# Altium schematic symbol library kmilo17pet-NSC_Interface.SchLib: 1433 symbols (part 13 of 51)
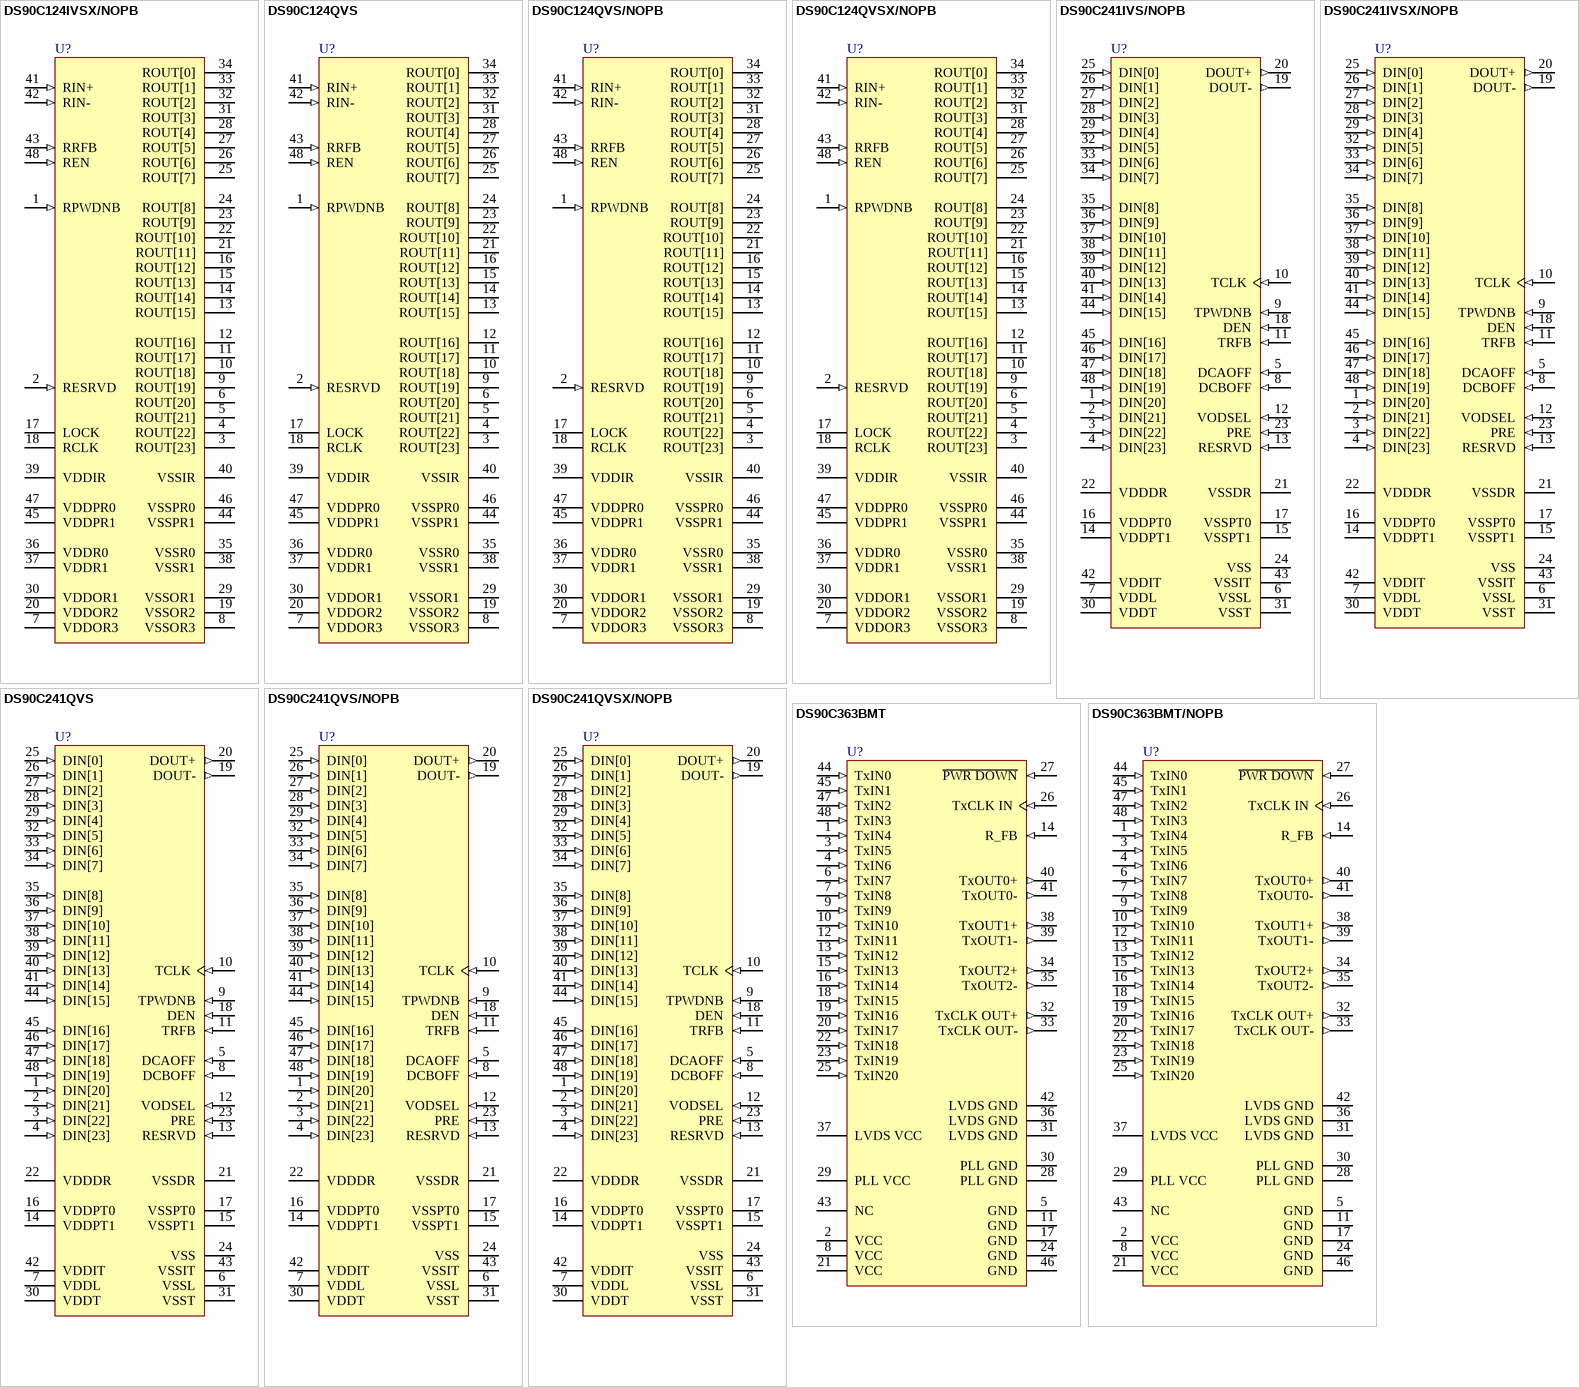
[diagram p136: symbols DS90C124IVSX/NOPB to DS90C363BMT/NOPB]

## DS90C363BMT
designator U?
+3.3V Programmable LVDS Transmitter 18-Bit Flat Panel Display (FPD) Link - 65MHz, 48-pin TSSOP; PartNumber: DS90C363BMT; Manufacturer: National Semiconductor; PackageTopMarking: NSUZXYTTE#*DS90C363BMT; PowerWise: N; CompType: Interface IC; High-Reliability: Y; DatasheetVersion: Oct-2006; PackageVersion: revE, Apr-2003; PackageReference: MTD48; PackageDescription: Molded TSSOP, Jedec, 12.5 x 6.1 x 0.9mm Body, 48 Lead, 0.50mm Pitch; RoHS: N; PinCount: 48; Code_JEDEC: MO-153-ED; ComponentLink1Description: Manufacturer URL; ComponentLink1URL: http://www.national.com/; ComponentLink2Description: DS90C363B Datasheet; ComponentLink2URL: http://www.national.com/ds/DS/DS90C363B.pdf; ComponentLink3Description: DS90C363B Web Page; ComponentLink3URL: http://www.national.com/pf/DS/DS90C363B.html; ComponentLink4Description: MTD48 Package Page; ComponentLink4URL: http://www.national.com/packaging/folders/mtd48.html
footprint MTD48_N (TSSOP, 48-Leads, Body 12.5x6.1mm, Pitch 0.5mm, IPC Medium Density)
footprint MTD48_L (TSSOP, 48-Leads, Body 12.5x6.1mm, Pitch 0.5mm, IPC High Density)
footprint MTD48_M (TSSOP, 48-Leads, Body 12.5x6.1mm, Pitch 0.5mm, IPC Low Density)
pins: 1 TxIN4 (in), 2 VCC (power), 3 TxIN5 (in), 4 TxIN6 (in), 5 GND (power), 6 TxIN7 (in), 7 TxIN8 (in), 8 VCC (power), 9 TxIN9 (in), 10 TxIN10 (in), 11 GND (power), 12 TxIN11 (in), 13 TxIN12 (in), 14 R_FB (in), 15 TxIN13 (in), 16 TxIN14 (in), 17 GND (power), 18 TxIN15 (in), 19 TxIN16 (in), 20 TxIN17 (in), 21 VCC (power), 22 TxIN18 (in), 23 TxIN19 (in), 24 GND (power), 25 TxIN20 (in), 26 TxCLK IN (in), 27 ~{PWR DOWN} (in), 28 PLL GND (power), 29 PLL VCC (power), 30 PLL GND (power), 31 LVDS GND (power), 32 TxCLK OUT+ (out), 33 TxCLK OUT- (out), 34 TxOUT2+ (out), 35 TxOUT2- (out), 36 LVDS GND (power), 37 LVDS VCC (power), 38 TxOUT1+ (out), 39 TxOUT1- (out), 40 TxOUT0+ (out), 41 TxOUT0- (out), 42 LVDS GND (power), 43 NC, 44 TxIN0 (in), 45 TxIN1 (in), 46 GND (power), 47 TxIN2 (in), 48 TxIN3 (in)

## DS90C363BMT/NOPB
designator U?
+3.3V Programmable LVDS Transmitter 18-Bit Flat Panel Display (FPD) Link - 65MHz, 48-pin TSSOP, Pb-Free; PartNumber: DS90C363BMT/NOPB; Manufacturer: National Semiconductor; PackageTopMarking: NSUZXYTTE#*DS90C363BMT; PowerWise: N; CompType: Interface IC; High-Reliability: Y; DatasheetVersion: Oct-2006; PackageVersion: revE, Apr-2003; PackageReference: MTD48; PackageDescription: Molded TSSOP, Jedec, 12.5 x 6.1 x 0.9mm Body, 48 Lead, 0.50mm Pitch; RoHS: Y; PinCount: 48; Code_JEDEC: MO-153-ED; ComponentLink1Description: Manufacturer URL; ComponentLink1URL: http://www.national.com/; ComponentLink2Description: DS90C363B Datasheet; ComponentLink2URL: http://www.national.com/ds/DS/DS90C363B.pdf; ComponentLink3Description: DS90C363B Web Page; ComponentLink3URL: http://www.national.com/pf/DS/DS90C363B.html; ComponentLink4Description: MTD48 Package Page; ComponentLink4URL: http://www.national.com/packaging/folders/mtd48.html
footprint MTD48_N (TSSOP, 48-Leads, Body 12.5x6.1mm, Pitch 0.5mm, IPC Medium Density)
footprint MTD48_L (TSSOP, 48-Leads, Body 12.5x6.1mm, Pitch 0.5mm, IPC High Density)
footprint MTD48_M (TSSOP, 48-Leads, Body 12.5x6.1mm, Pitch 0.5mm, IPC Low Density)
pins: 1 TxIN4 (in), 2 VCC (power), 3 TxIN5 (in), 4 TxIN6 (in), 5 GND (power), 6 TxIN7 (in), 7 TxIN8 (in), 8 VCC (power), 9 TxIN9 (in), 10 TxIN10 (in), 11 GND (power), 12 TxIN11 (in), 13 TxIN12 (in), 14 R_FB (in), 15 TxIN13 (in), 16 TxIN14 (in), 17 GND (power), 18 TxIN15 (in), 19 TxIN16 (in), 20 TxIN17 (in), 21 VCC (power), 22 TxIN18 (in), 23 TxIN19 (in), 24 GND (power), 25 TxIN20 (in), 26 TxCLK IN (in), 27 ~{PWR DOWN} (in), 28 PLL GND (power), 29 PLL VCC (power), 30 PLL GND (power), 31 LVDS GND (power), 32 TxCLK OUT+ (out), 33 TxCLK OUT- (out), 34 TxOUT2+ (out), 35 TxOUT2- (out), 36 LVDS GND (power), 37 LVDS VCC (power), 38 TxOUT1+ (out), 39 TxOUT1- (out), 40 TxOUT0+ (out), 41 TxOUT0- (out), 42 LVDS GND (power), 43 NC, 44 TxIN0 (in), 45 TxIN1 (in), 46 GND (power), 47 TxIN2 (in), 48 TxIN3 (in)

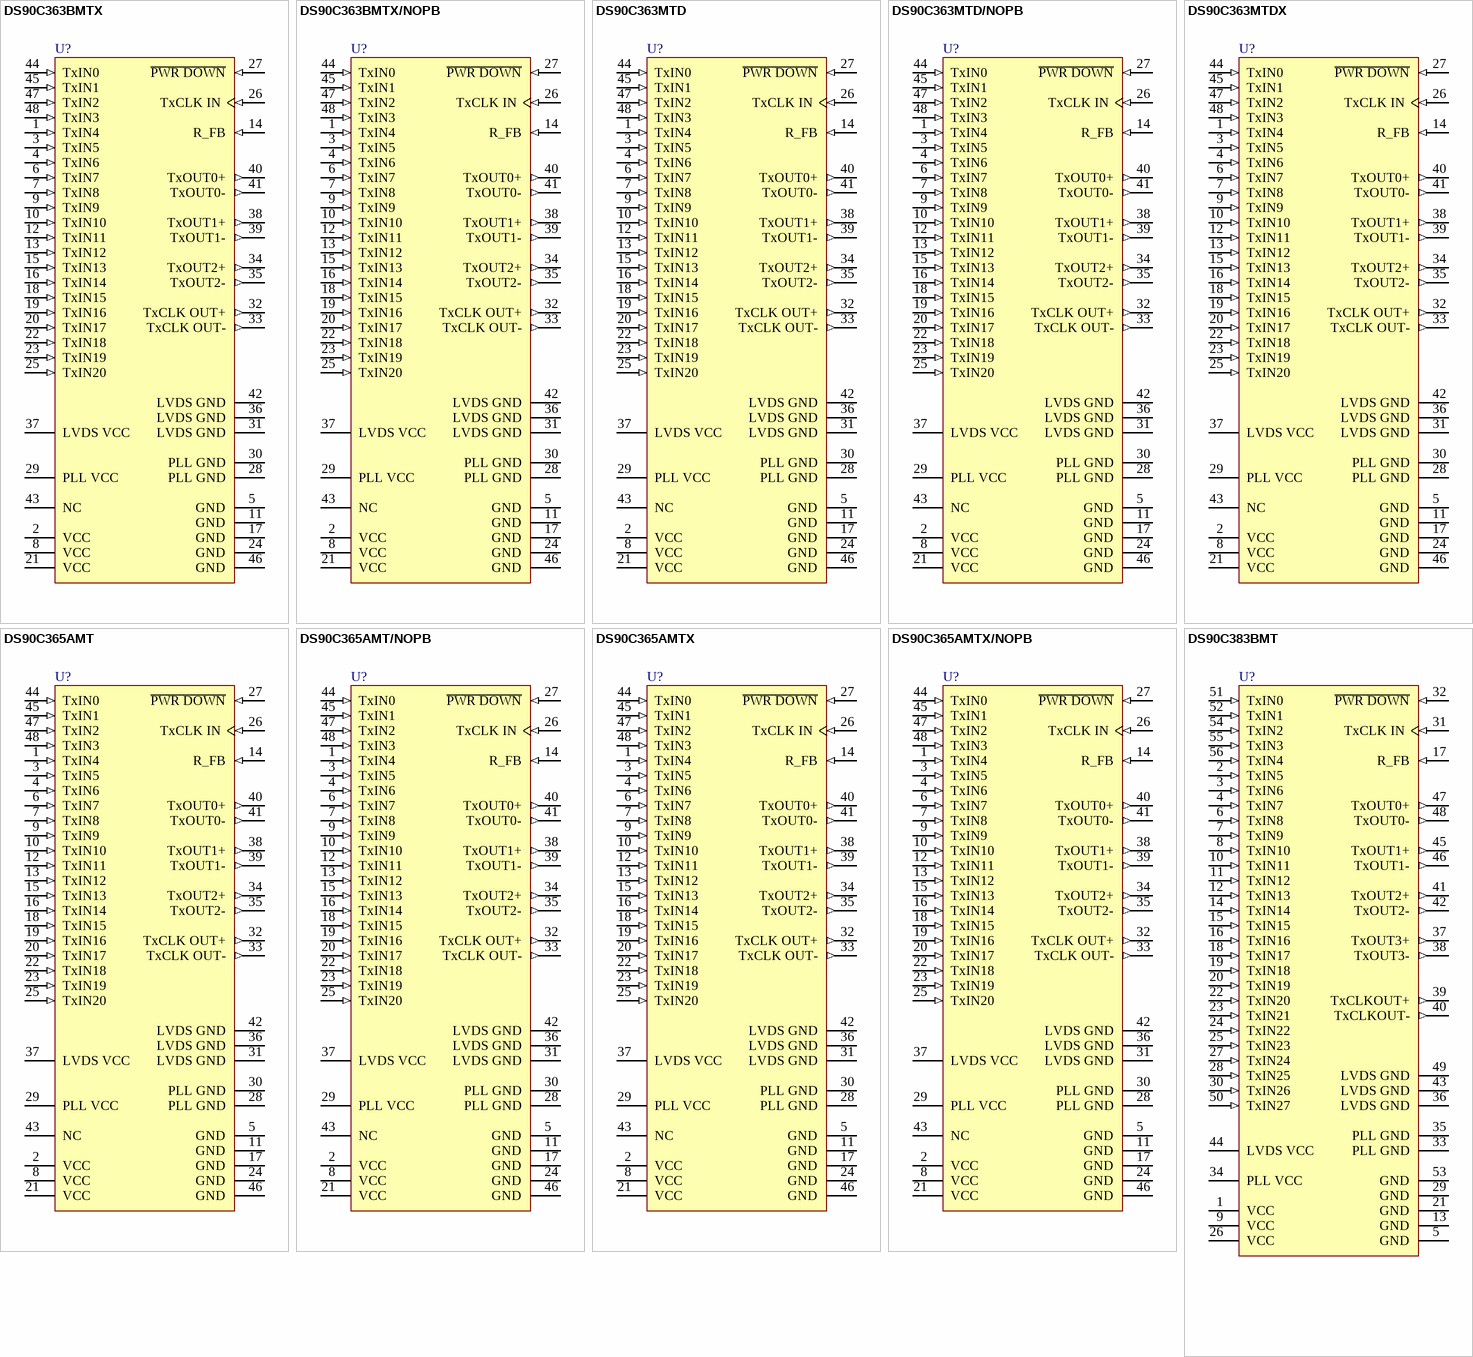
[diagram p31: symbols DS90C363BMTX to DS90C383BMT]

## DS90C363BMTX
designator U?
+3.3V Programmable LVDS Transmitter 18-Bit Flat Panel Display (FPD) Link - 65MHz, 48-pin TSSOP; PartNumber: DS90C363BMTX; Manufacturer: National Semiconductor; PackageTopMarking: NSUZXYTTE#*DS90C363BMT; PowerWise: N; CompType: Interface IC; High-Reliability: Y; DatasheetVersion: Oct-2006; PackageVersion: revE, Apr-2003; PackageReference: MTD48; PackageDescription: Molded TSSOP, Jedec, 12.5 x 6.1 x 0.9mm Body, 48 Lead, 0.50mm Pitch; RoHS: N; PinCount: 48; Code_JEDEC: MO-153-ED; ComponentLink1Description: Manufacturer URL; ComponentLink1URL: http://www.national.com/; ComponentLink2Description: DS90C363B Datasheet; ComponentLink2URL: http://www.national.com/ds/DS/DS90C363B.pdf; ComponentLink3Description: DS90C363B Web Page; ComponentLink3URL: http://www.national.com/pf/DS/DS90C363B.html; ComponentLink4Description: MTD48 Package Page; ComponentLink4URL: http://www.national.com/packaging/folders/mtd48.html
footprint MTD48_N (TSSOP, 48-Leads, Body 12.5x6.1mm, Pitch 0.5mm, IPC Medium Density)
footprint MTD48_L (TSSOP, 48-Leads, Body 12.5x6.1mm, Pitch 0.5mm, IPC High Density)
footprint MTD48_M (TSSOP, 48-Leads, Body 12.5x6.1mm, Pitch 0.5mm, IPC Low Density)
pins: 1 TxIN4 (in), 2 VCC (power), 3 TxIN5 (in), 4 TxIN6 (in), 5 GND (power), 6 TxIN7 (in), 7 TxIN8 (in), 8 VCC (power), 9 TxIN9 (in), 10 TxIN10 (in), 11 GND (power), 12 TxIN11 (in), 13 TxIN12 (in), 14 R_FB (in), 15 TxIN13 (in), 16 TxIN14 (in), 17 GND (power), 18 TxIN15 (in), 19 TxIN16 (in), 20 TxIN17 (in), 21 VCC (power), 22 TxIN18 (in), 23 TxIN19 (in), 24 GND (power), 25 TxIN20 (in), 26 TxCLK IN (in), 27 ~{PWR DOWN} (in), 28 PLL GND (power), 29 PLL VCC (power), 30 PLL GND (power), 31 LVDS GND (power), 32 TxCLK OUT+ (out), 33 TxCLK OUT- (out), 34 TxOUT2+ (out), 35 TxOUT2- (out), 36 LVDS GND (power), 37 LVDS VCC (power), 38 TxOUT1+ (out), 39 TxOUT1- (out), 40 TxOUT0+ (out), 41 TxOUT0- (out), 42 LVDS GND (power), 43 NC, 44 TxIN0 (in), 45 TxIN1 (in), 46 GND (power), 47 TxIN2 (in), 48 TxIN3 (in)

## DS90C363BMTX/NOPB
designator U?
+3.3V Programmable LVDS Transmitter 18-Bit Flat Panel Display (FPD) Link - 65MHz, 48-pin TSSOP, Pb-Free; PartNumber: DS90C363BMTX/NOPB; Manufacturer: National Semiconductor; PackageTopMarking: NSUZXYTTE#*DS90C363BMT; PowerWise: N; CompType: Interface IC; High-Reliability: Y; DatasheetVersion: Oct-2006; PackageVersion: revE, Apr-2003; PackageReference: MTD48; PackageDescription: Molded TSSOP, Jedec, 12.5 x 6.1 x 0.9mm Body, 48 Lead, 0.50mm Pitch; RoHS: Y; PinCount: 48; Code_JEDEC: MO-153-ED; ComponentLink1Description: Manufacturer URL; ComponentLink1URL: http://www.national.com/; ComponentLink2Description: DS90C363B Datasheet; ComponentLink2URL: http://www.national.com/ds/DS/DS90C363B.pdf; ComponentLink3Description: DS90C363B Web Page; ComponentLink3URL: http://www.national.com/pf/DS/DS90C363B.html; ComponentLink4Description: MTD48 Package Page; ComponentLink4URL: http://www.national.com/packaging/folders/mtd48.html
footprint MTD48_N (TSSOP, 48-Leads, Body 12.5x6.1mm, Pitch 0.5mm, IPC Medium Density)
footprint MTD48_L (TSSOP, 48-Leads, Body 12.5x6.1mm, Pitch 0.5mm, IPC High Density)
footprint MTD48_M (TSSOP, 48-Leads, Body 12.5x6.1mm, Pitch 0.5mm, IPC Low Density)
pins: 1 TxIN4 (in), 2 VCC (power), 3 TxIN5 (in), 4 TxIN6 (in), 5 GND (power), 6 TxIN7 (in), 7 TxIN8 (in), 8 VCC (power), 9 TxIN9 (in), 10 TxIN10 (in), 11 GND (power), 12 TxIN11 (in), 13 TxIN12 (in), 14 R_FB (in), 15 TxIN13 (in), 16 TxIN14 (in), 17 GND (power), 18 TxIN15 (in), 19 TxIN16 (in), 20 TxIN17 (in), 21 VCC (power), 22 TxIN18 (in), 23 TxIN19 (in), 24 GND (power), 25 TxIN20 (in), 26 TxCLK IN (in), 27 ~{PWR DOWN} (in), 28 PLL GND (power), 29 PLL VCC (power), 30 PLL GND (power), 31 LVDS GND (power), 32 TxCLK OUT+ (out), 33 TxCLK OUT- (out), 34 TxOUT2+ (out), 35 TxOUT2- (out), 36 LVDS GND (power), 37 LVDS VCC (power), 38 TxOUT1+ (out), 39 TxOUT1- (out), 40 TxOUT0+ (out), 41 TxOUT0- (out), 42 LVDS GND (power), 43 NC, 44 TxIN0 (in), 45 TxIN1 (in), 46 GND (power), 47 TxIN2 (in), 48 TxIN3 (in)

## DS90C363MTD
designator U?
+3.3V Programmable LVDS Transmitter 18-Bit Flat Panel Display (FPD) Link-65 MHz, 48 pin TSSOP; PartNumber: DS90C363MTD; Manufacturer: National Semiconductor; PackageTopMarking: NS2ZXYTTE#*DS90C363MTD*BBBBB; PowerWise: N; CompType: Interface IC; High-Reliability: Y; DatasheetVersion: Sep-1999; PackageVersion: revE, Apr-2003; PackageReference: MTD48; PackageDescription: Molded TSSOP, Jedec, 12.5 x 6.1 x 0.9mm Body, 48 Lead, 0.50mm Pitch; RoHS: N; PinCount: 48; Code_JEDEC: MO-153-ED; ComponentLink1Description: Manufacturer URL; ComponentLink1URL: http://www.national.com/; ComponentLink2Description: DS90C363 Datasheet; ComponentLink2URL: http://www.national.com/ds/DS/DS90C363.pdf; ComponentLink3Description: DS90C363 Web Page; ComponentLink3URL: http://www.national.com/pf/DS/DS90C363.html; ComponentLink4Description: MTD48 Package Page; ComponentLink4URL: http://www.national.com/packaging/folders/mtd48.html
footprint MTD48_N (TSSOP, 48-Leads, Body 12.5x6.1mm, Pitch 0.5mm, IPC Medium Density)
footprint MTD48_L (TSSOP, 48-Leads, Body 12.5x6.1mm, Pitch 0.5mm, IPC High Density)
footprint MTD48_M (TSSOP, 48-Leads, Body 12.5x6.1mm, Pitch 0.5mm, IPC Low Density)
pins: 1 TxIN4 (in), 2 VCC (power), 3 TxIN5 (in), 4 TxIN6 (in), 5 GND (power), 6 TxIN7 (in), 7 TxIN8 (in), 8 VCC (power), 9 TxIN9 (in), 10 TxIN10 (in), 11 GND (power), 12 TxIN11 (in), 13 TxIN12 (in), 14 R_FB (in), 15 TxIN13 (in), 16 TxIN14 (in), 17 GND (power), 18 TxIN15 (in), 19 TxIN16 (in), 20 TxIN17 (in), 21 VCC (power), 22 TxIN18 (in), 23 TxIN19 (in), 24 GND (power), 25 TxIN20 (in), 26 TxCLK IN (in), 27 ~{PWR DOWN} (in), 28 PLL GND (power), 29 PLL VCC (power), 30 PLL GND (power), 31 LVDS GND (power), 32 TxCLK OUT+ (out), 33 TxCLK OUT- (out), 34 TxOUT2+ (out), 35 TxOUT2- (out), 36 LVDS GND (power), 37 LVDS VCC (power), 38 TxOUT1+ (out), 39 TxOUT1- (out), 40 TxOUT0+ (out), 41 TxOUT0- (out), 42 LVDS GND (power), 43 NC, 44 TxIN0 (in), 45 TxIN1 (in), 46 GND (power), 47 TxIN2 (in), 48 TxIN3 (in)

## DS90C363MTD/NOPB
designator U?
+3.3V Programmable LVDS Transmitter 18-Bit Flat Panel Display (FPD) Link-65 MHz, 48 pin TSSOP; PartNumber: DS90C363MTD/NOPB; Manufacturer: National Semiconductor; PackageTopMarking: NS2ZXYTTE#*DS90C363MTD*BBBBB; PowerWise: N; CompType: Interface IC; High-Reliability: Y; DatasheetVersion: Sep-1999; PackageVersion: revE, Apr-2003; PackageReference: MTD48; PackageDescription: Molded TSSOP, Jedec, 12.5 x 6.1 x 0.9mm Body, 48 Lead, 0.50mm Pitch; RoHS: Y; PinCount: 48; Code_JEDEC: MO-153-ED; ComponentLink1Description: Manufacturer URL; ComponentLink1URL: http://www.national.com/; ComponentLink2Description: DS90C363 Datasheet; ComponentLink2URL: http://www.national.com/ds/DS/DS90C363.pdf; ComponentLink3Description: DS90C363 Web Page; ComponentLink3URL: http://www.national.com/pf/DS/DS90C363.html; ComponentLink4Description: MTD48 Package Page; ComponentLink4URL: http://www.national.com/packaging/folders/mtd48.html
footprint MTD48_N (TSSOP, 48-Leads, Body 12.5x6.1mm, Pitch 0.5mm, IPC Medium Density)
footprint MTD48_L (TSSOP, 48-Leads, Body 12.5x6.1mm, Pitch 0.5mm, IPC High Density)
footprint MTD48_M (TSSOP, 48-Leads, Body 12.5x6.1mm, Pitch 0.5mm, IPC Low Density)
pins: 1 TxIN4 (in), 2 VCC (power), 3 TxIN5 (in), 4 TxIN6 (in), 5 GND (power), 6 TxIN7 (in), 7 TxIN8 (in), 8 VCC (power), 9 TxIN9 (in), 10 TxIN10 (in), 11 GND (power), 12 TxIN11 (in), 13 TxIN12 (in), 14 R_FB (in), 15 TxIN13 (in), 16 TxIN14 (in), 17 GND (power), 18 TxIN15 (in), 19 TxIN16 (in), 20 TxIN17 (in), 21 VCC (power), 22 TxIN18 (in), 23 TxIN19 (in), 24 GND (power), 25 TxIN20 (in), 26 TxCLK IN (in), 27 ~{PWR DOWN} (in), 28 PLL GND (power), 29 PLL VCC (power), 30 PLL GND (power), 31 LVDS GND (power), 32 TxCLK OUT+ (out), 33 TxCLK OUT- (out), 34 TxOUT2+ (out), 35 TxOUT2- (out), 36 LVDS GND (power), 37 LVDS VCC (power), 38 TxOUT1+ (out), 39 TxOUT1- (out), 40 TxOUT0+ (out), 41 TxOUT0- (out), 42 LVDS GND (power), 43 NC, 44 TxIN0 (in), 45 TxIN1 (in), 46 GND (power), 47 TxIN2 (in), 48 TxIN3 (in)

## DS90C363MTDX
designator U?
+3.3V Programmable LVDS Transmitter 18-Bit Flat Panel Display (FPD) Link-65 MHz, 48 pin TSSOP; PartNumber: DS90C363MTDX; Manufacturer: National Semiconductor; PackageTopMarking: NS2ZXYTTE#*DS90C363MTD*BBBBB; PowerWise: N; CompType: Interface IC; High-Reliability: Y; DatasheetVersion: Sep-1999; PackageVersion: revE, Apr-2003; PackageReference: MTD48; PackageDescription: Molded TSSOP, Jedec, 12.5 x 6.1 x 0.9mm Body, 48 Lead, 0.50mm Pitch; RoHS: N; PinCount: 48; Code_JEDEC: MO-153-ED; ComponentLink1Description: Manufacturer URL; ComponentLink1URL: http://www.national.com/; ComponentLink2Description: DS90C363 Datasheet; ComponentLink2URL: http://www.national.com/ds/DS/DS90C363.pdf; ComponentLink3Description: DS90C363 Web Page; ComponentLink3URL: http://www.national.com/pf/DS/DS90C363.html; ComponentLink4Description: MTD48 Package Page; ComponentLink4URL: http://www.national.com/packaging/folders/mtd48.html
footprint MTD48_N (TSSOP, 48-Leads, Body 12.5x6.1mm, Pitch 0.5mm, IPC Medium Density)
footprint MTD48_L (TSSOP, 48-Leads, Body 12.5x6.1mm, Pitch 0.5mm, IPC High Density)
footprint MTD48_M (TSSOP, 48-Leads, Body 12.5x6.1mm, Pitch 0.5mm, IPC Low Density)
pins: 1 TxIN4 (in), 2 VCC (power), 3 TxIN5 (in), 4 TxIN6 (in), 5 GND (power), 6 TxIN7 (in), 7 TxIN8 (in), 8 VCC (power), 9 TxIN9 (in), 10 TxIN10 (in), 11 GND (power), 12 TxIN11 (in), 13 TxIN12 (in), 14 R_FB (in), 15 TxIN13 (in), 16 TxIN14 (in), 17 GND (power), 18 TxIN15 (in), 19 TxIN16 (in), 20 TxIN17 (in), 21 VCC (power), 22 TxIN18 (in), 23 TxIN19 (in), 24 GND (power), 25 TxIN20 (in), 26 TxCLK IN (in), 27 ~{PWR DOWN} (in), 28 PLL GND (power), 29 PLL VCC (power), 30 PLL GND (power), 31 LVDS GND (power), 32 TxCLK OUT+ (out), 33 TxCLK OUT- (out), 34 TxOUT2+ (out), 35 TxOUT2- (out), 36 LVDS GND (power), 37 LVDS VCC (power), 38 TxOUT1+ (out), 39 TxOUT1- (out), 40 TxOUT0+ (out), 41 TxOUT0- (out), 42 LVDS GND (power), 43 NC, 44 TxIN0 (in), 45 TxIN1 (in), 46 GND (power), 47 TxIN2 (in), 48 TxIN3 (in)

## DS90C365AMT
designator U?
LVDS Transmitter Flat Panel Display 85MHz, 48-pin TSSOP; PartNumber: DS90C365AMT; Manufacturer: National Semiconductor; PackageTopMarking: NSUZXYTTE#*DS90C365AMT; PowerWise: N; CompType: Interface IC; High-Reliability: Y; DatasheetVersion: Aug-2008; PackageVersion: revE, Apr-2003; PackageReference: MTD48; PackageDescription: Molded TSSOP, Jedec, 12.5 x 6.1 x 0.9mm Body, 48 Lead, 0.50mm Pitch; RoHS: N; PinCount: 48; Code_JEDEC: MO-153-ED; ComponentLink1Description: Manufacturer URL; ComponentLink1URL: http://www.national.com/; ComponentLink2Description: DS90C365A Datasheet; ComponentLink2URL: http://www.national.com/ds/DS/DS90C365A.pdf; ComponentLink3Description: DS90C365A Web Page; ComponentLink3URL: http://www.national.com/pf/DS/DS90C365A.html; ComponentLink4Description: MTD48 Package Page; ComponentLink4URL: http://www.national.com/packaging/folders/mtd48.html
footprint MTD48_N (TSSOP, 48-Leads, Body 12.5x6.1mm, Pitch 0.5mm, IPC Medium Density)
footprint MTD48_L (TSSOP, 48-Leads, Body 12.5x6.1mm, Pitch 0.5mm, IPC High Density)
footprint MTD48_M (TSSOP, 48-Leads, Body 12.5x6.1mm, Pitch 0.5mm, IPC Low Density)
pins: 1 TxIN4 (in), 2 VCC (power), 3 TxIN5 (in), 4 TxIN6 (in), 5 GND (power), 6 TxIN7 (in), 7 TxIN8 (in), 8 VCC (power), 9 TxIN9 (in), 10 TxIN10 (in), 11 GND (power), 12 TxIN11 (in), 13 TxIN12 (in), 14 R_FB (in), 15 TxIN13 (in), 16 TxIN14 (in), 17 GND (power), 18 TxIN15 (in), 19 TxIN16 (in), 20 TxIN17 (in), 21 VCC (power), 22 TxIN18 (in), 23 TxIN19 (in), 24 GND (power), 25 TxIN20 (in), 26 TxCLK IN (in), 27 ~{PWR DOWN} (in), 28 PLL GND (power), 29 PLL VCC (power), 30 PLL GND (power), 31 LVDS GND (power), 32 TxCLK OUT+ (out), 33 TxCLK OUT- (out), 34 TxOUT2+ (out), 35 TxOUT2- (out), 36 LVDS GND (power), 37 LVDS VCC (power), 38 TxOUT1+ (out), 39 TxOUT1- (out), 40 TxOUT0+ (out), 41 TxOUT0- (out), 42 LVDS GND (power), 43 NC, 44 TxIN0 (in), 45 TxIN1 (in), 46 GND (power), 47 TxIN2 (in), 48 TxIN3 (in)

## DS90C365AMT/NOPB
designator U?
+3.3V Programmable LVDS Transmitter 18-Bit Flat Panel Display Link-87.5 MHz, 48-pin TSSOP, Pb-Free; PartNumber: DS90C365AMT/NOPB; Manufacturer: National Semiconductor; PackageTopMarking: NSUZXYTTE#*DS90C365AMT; PowerWise: N; CompType: Interface IC; High-Reliability: Y; DatasheetVersion: Aug-2008; PackageVersion: revE, Apr-2003; PackageReference: MTD48; PackageDescription: Molded TSSOP, Jedec, 12.5 x 6.1 x 0.9mm Body, 48 Lead, 0.50mm Pitch; RoHS: Y; PinCount: 48; Code_JEDEC: MO-153-ED; ComponentLink1Description: Manufacturer URL; ComponentLink1URL: http://www.national.com/; ComponentLink2Description: DS90C365A Datasheet; ComponentLink2URL: http://www.national.com/ds/DS/DS90C365A.pdf; ComponentLink3Description: DS90C365A Web Page; ComponentLink3URL: http://www.national.com/pf/DS/DS90C365A.html; ComponentLink4Description: MTD48 Package Page; ComponentLink4URL: http://www.national.com/packaging/folders/mtd48.html
footprint MTD48_N (TSSOP, 48-Leads, Body 12.5x6.1mm, Pitch 0.5mm, IPC Medium Density)
footprint MTD48_L (TSSOP, 48-Leads, Body 12.5x6.1mm, Pitch 0.5mm, IPC High Density)
footprint MTD48_M (TSSOP, 48-Leads, Body 12.5x6.1mm, Pitch 0.5mm, IPC Low Density)
pins: 1 TxIN4 (in), 2 VCC (power), 3 TxIN5 (in), 4 TxIN6 (in), 5 GND (power), 6 TxIN7 (in), 7 TxIN8 (in), 8 VCC (power), 9 TxIN9 (in), 10 TxIN10 (in), 11 GND (power), 12 TxIN11 (in), 13 TxIN12 (in), 14 R_FB (in), 15 TxIN13 (in), 16 TxIN14 (in), 17 GND (power), 18 TxIN15 (in), 19 TxIN16 (in), 20 TxIN17 (in), 21 VCC (power), 22 TxIN18 (in), 23 TxIN19 (in), 24 GND (power), 25 TxIN20 (in), 26 TxCLK IN (in), 27 ~{PWR DOWN} (in), 28 PLL GND (power), 29 PLL VCC (power), 30 PLL GND (power), 31 LVDS GND (power), 32 TxCLK OUT+ (out), 33 TxCLK OUT- (out), 34 TxOUT2+ (out), 35 TxOUT2- (out), 36 LVDS GND (power), 37 LVDS VCC (power), 38 TxOUT1+ (out), 39 TxOUT1- (out), 40 TxOUT0+ (out), 41 TxOUT0- (out), 42 LVDS GND (power), 43 NC, 44 TxIN0 (in), 45 TxIN1 (in), 46 GND (power), 47 TxIN2 (in), 48 TxIN3 (in)

## DS90C365AMTX
designator U?
+3.3V Programmable LVDS Transmitter 18-Bit Flat Panel Display Link-87.5 MHz, 48-pin TSSOP; PartNumber: DS90C365AMTX; Manufacturer: National Semiconductor; PackageTopMarking: NSUZXYTTE#*DS90C365AMT; PowerWise: N; CompType: Interface IC; High-Reliability: Y; DatasheetVersion: Aug-2008; PackageVersion: revE, Apr-2003; PackageReference: MTD48; PackageDescription: Molded TSSOP, Jedec, 12.5 x 6.1 x 0.9mm Body, 48 Lead, 0.50mm Pitch; RoHS: N; PinCount: 48; Code_JEDEC: MO-153-ED; ComponentLink1Description: Manufacturer URL; ComponentLink1URL: http://www.national.com/; ComponentLink2Description: DS90C365A Datasheet; ComponentLink2URL: http://www.national.com/ds/DS/DS90C365A.pdf; ComponentLink3Description: DS90C365A Web Page; ComponentLink3URL: http://www.national.com/pf/DS/DS90C365A.html; ComponentLink4Description: MTD48 Package Page; ComponentLink4URL: http://www.national.com/packaging/folders/mtd48.html
footprint MTD48_N (TSSOP, 48-Leads, Body 12.5x6.1mm, Pitch 0.5mm, IPC Medium Density)
footprint MTD48_L (TSSOP, 48-Leads, Body 12.5x6.1mm, Pitch 0.5mm, IPC High Density)
footprint MTD48_M (TSSOP, 48-Leads, Body 12.5x6.1mm, Pitch 0.5mm, IPC Low Density)
pins: 1 TxIN4 (in), 2 VCC (power), 3 TxIN5 (in), 4 TxIN6 (in), 5 GND (power), 6 TxIN7 (in), 7 TxIN8 (in), 8 VCC (power), 9 TxIN9 (in), 10 TxIN10 (in), 11 GND (power), 12 TxIN11 (in), 13 TxIN12 (in), 14 R_FB (in), 15 TxIN13 (in), 16 TxIN14 (in), 17 GND (power), 18 TxIN15 (in), 19 TxIN16 (in), 20 TxIN17 (in), 21 VCC (power), 22 TxIN18 (in), 23 TxIN19 (in), 24 GND (power), 25 TxIN20 (in), 26 TxCLK IN (in), 27 ~{PWR DOWN} (in), 28 PLL GND (power), 29 PLL VCC (power), 30 PLL GND (power), 31 LVDS GND (power), 32 TxCLK OUT+ (out), 33 TxCLK OUT- (out), 34 TxOUT2+ (out), 35 TxOUT2- (out), 36 LVDS GND (power), 37 LVDS VCC (power), 38 TxOUT1+ (out), 39 TxOUT1- (out), 40 TxOUT0+ (out), 41 TxOUT0- (out), 42 LVDS GND (power), 43 NC, 44 TxIN0 (in), 45 TxIN1 (in), 46 GND (power), 47 TxIN2 (in), 48 TxIN3 (in)

## DS90C365AMTX/NOPB
designator U?
+3.3V Programmable LVDS Transmitter 18-Bit Flat Panel Display Link-87.5 MHz, 48-pin TSSOP, Pb-Free; PartNumber: DS90C365AMTX/NOPB; Manufacturer: National Semiconductor; PackageTopMarking: NSUZXYTTE#*DS90C365AMT; PowerWise: N; CompType: Interface IC; High-Reliability: Y; DatasheetVersion: Aug-2008; PackageVersion: revE, Apr-2003; PackageReference: MTD48; PackageDescription: Molded TSSOP, Jedec, 12.5 x 6.1 x 0.9mm Body, 48 Lead, 0.50mm Pitch; RoHS: Y; PinCount: 48; Code_JEDEC: MO-153-ED; ComponentLink1Description: Manufacturer URL; ComponentLink1URL: http://www.national.com/; ComponentLink2Description: DS90C365A Datasheet; ComponentLink2URL: http://www.national.com/ds/DS/DS90C365A.pdf; ComponentLink3Description: DS90C365A Web Page; ComponentLink3URL: http://www.national.com/pf/DS/DS90C365A.html; ComponentLink4Description: MTD48 Package Page; ComponentLink4URL: http://www.national.com/packaging/folders/mtd48.html
footprint MTD48_N (TSSOP, 48-Leads, Body 12.5x6.1mm, Pitch 0.5mm, IPC Medium Density)
footprint MTD48_L (TSSOP, 48-Leads, Body 12.5x6.1mm, Pitch 0.5mm, IPC High Density)
footprint MTD48_M (TSSOP, 48-Leads, Body 12.5x6.1mm, Pitch 0.5mm, IPC Low Density)
pins: 1 TxIN4 (in), 2 VCC (power), 3 TxIN5 (in), 4 TxIN6 (in), 5 GND (power), 6 TxIN7 (in), 7 TxIN8 (in), 8 VCC (power), 9 TxIN9 (in), 10 TxIN10 (in), 11 GND (power), 12 TxIN11 (in), 13 TxIN12 (in), 14 R_FB (in), 15 TxIN13 (in), 16 TxIN14 (in), 17 GND (power), 18 TxIN15 (in), 19 TxIN16 (in), 20 TxIN17 (in), 21 VCC (power), 22 TxIN18 (in), 23 TxIN19 (in), 24 GND (power), 25 TxIN20 (in), 26 TxCLK IN (in), 27 ~{PWR DOWN} (in), 28 PLL GND (power), 29 PLL VCC (power), 30 PLL GND (power), 31 LVDS GND (power), 32 TxCLK OUT+ (out), 33 TxCLK OUT- (out), 34 TxOUT2+ (out), 35 TxOUT2- (out), 36 LVDS GND (power), 37 LVDS VCC (power), 38 TxOUT1+ (out), 39 TxOUT1- (out), 40 TxOUT0+ (out), 41 TxOUT0- (out), 42 LVDS GND (power), 43 NC, 44 TxIN0 (in), 45 TxIN1 (in), 46 GND (power), 47 TxIN2 (in), 48 TxIN3 (in)

## DS90C383BMT
designator U?
+3.3V Programmable LVDS Transmitter 24-Bit Flat Panel Display (FPD) Link -65 MHz, 56-pin TSSOP; PartNumber: DS90C383BMT; Manufacturer: National Semiconductor; PackageTopMarking: NSUZXYTTE#*DS90C383BMT; PowerWise: N; CompType: Interface IC; High-Reliability: Y; DatasheetVersion: Oct-2006; PackageVersion: revD, Apr-2003; PackageReference: MTD56; PackageDescription: Molded TSSOP, Jedec, 14 x 6.1 x 0.9mm Body, 56 Lead, 0.50mm Pitch; RoHS: N; PinCount: 56; Code_IPC: TSSOP50P810-56; ComponentLink1Description: Manufacturer URL; ComponentLink1URL: http://www.national.com/; ComponentLink2Description: DS90C383B Datasheet; ComponentLink2URL: http://www.national.com/ds/DS/DS90C383B.pdf; ComponentLink3Description: DS90C383B Web Page; ComponentLink3URL: http://www.national.com/pf/DS/DS90C383B.html; ComponentLink4Description: MTD56 Package Page; ComponentLink4URL: http://www.national.com/packaging/folders/mtd56.html
footprint MTD56_N (TSSOP, 56-Leads, Body 14x6.1mm, Pitch 0.5mm, IPC Medium Density)
footprint MTD56_L (TSSOP, 56-Leads, Body 14x6.1mm, Pitch 0.5mm, IPC High Density)
footprint MTD56_M (TSSOP, 56-Leads, Body 14x6.1mm, Pitch 0.5mm, IPC Low Density)
pins: 1 VCC (power), 2 TxIN5 (in), 3 TxIN6 (in), 4 TxIN7 (in), 5 GND (power), 6 TxIN8 (in), 7 TxIN9 (in), 8 TxIN10 (in), 9 VCC (power), 10 TxIN11 (in), 11 TxIN12 (in), 12 TxIN13 (in), 13 GND (power), 14 TxIN14 (in), 15 TxIN15 (in), 16 TxIN16 (in), 17 R_FB (in), 18 TxIN17 (in), 19 TxIN18 (in), 20 TxIN19 (in), 21 GND (power), 22 TxIN20 (in), 23 TxIN21 (in), 24 TxIN22 (in), 25 TxIN23 (in), 26 VCC (power), 27 TxIN24 (in), 28 TxIN25 (in), 29 GND (power), 30 TxIN26 (in), 31 TxCLK IN (in), 32 ~{PWR DOWN} (in), 33 PLL GND (power), 34 PLL VCC (power), 35 PLL GND (power), 36 LVDS GND (power), 37 TxOUT3+ (out), 38 TxOUT3- (out), 39 TxCLKOUT+ (out), 40 TxCLKOUT- (out), 41 TxOUT2+ (out), 42 TxOUT2- (out), 43 LVDS GND (power), 44 LVDS VCC (power), 45 TxOUT1+ (out), 46 TxOUT1- (out), 47 TxOUT0+ (out), 48 TxOUT0- (out), 49 LVDS GND (power), 50 TxIN27 (in), 51 TxIN0 (in), 52 TxIN1 (in), 53 GND (power), 54 TxIN2 (in), 55 TxIN3 (in), 56 TxIN4 (in)

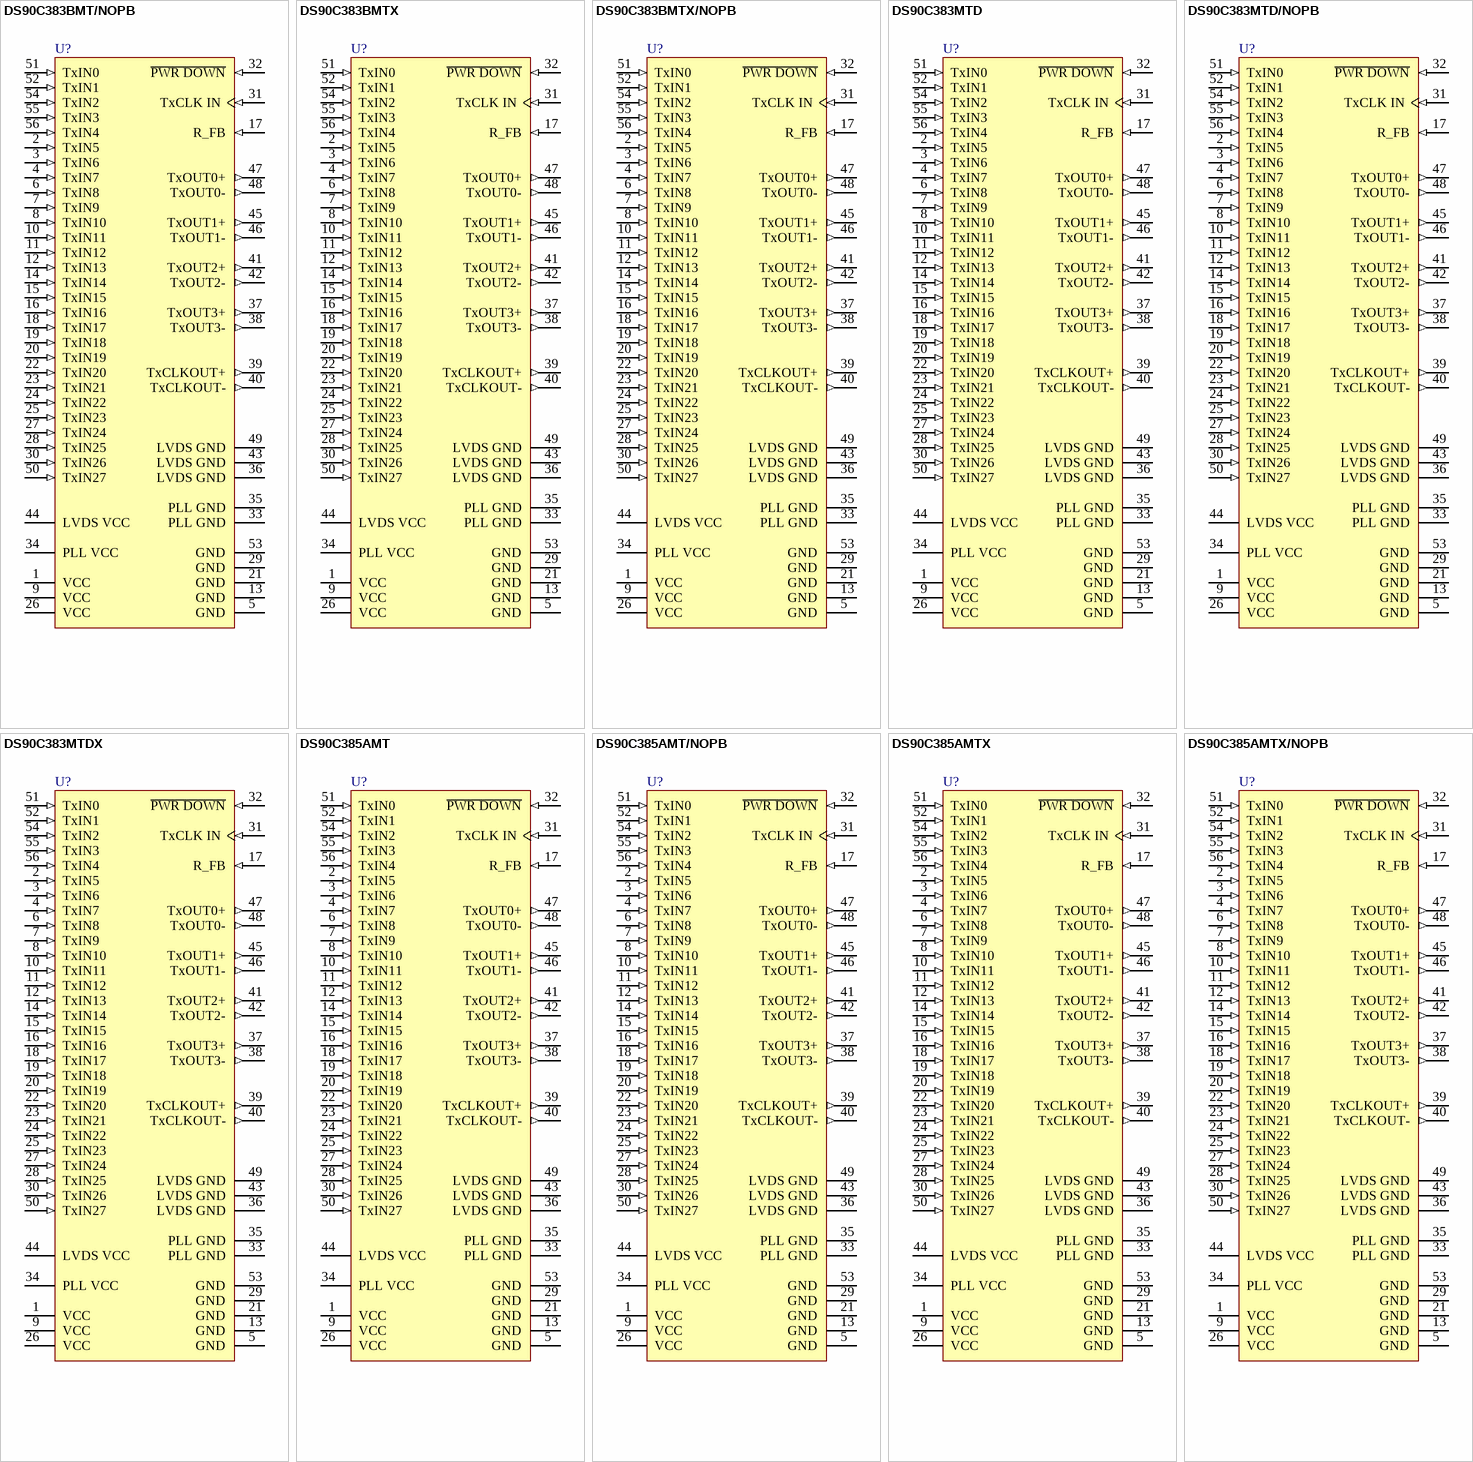
[diagram p32: symbols DS90C383BMT/NOPB to DS90C385AMTX/NOPB]

## DS90C383BMT/NOPB
designator U?
+3.3V Programmable LVDS Transmitter 24-Bit Flat Panel Display (FPD) Link - 65 MHz, 56-pin TSSOP, Pb-Free; PartNumber: DS90C383BMT/NOPB; Manufacturer: National Semiconductor; PackageTopMarking: NSUZXYTTE#*DS90C383BMT; PowerWise: N; CompType: Interface IC; High-Reliability: Y; DatasheetVersion: Oct-2006; PackageVersion: revD, Apr-2003; PackageReference: MTD56; PackageDescription: Molded TSSOP, Jedec, 14 x 6.1 x 0.9mm Body, 56 Lead, 0.50mm Pitch; RoHS: Y; PinCount: 56; Code_IPC: TSSOP50P810-56; ComponentLink1Description: Manufacturer URL; ComponentLink1URL: http://www.national.com/; ComponentLink2Description: DS90C383B Datasheet; ComponentLink2URL: http://www.national.com/ds/DS/DS90C383B.pdf; ComponentLink3Description: DS90C383B Web Page; ComponentLink3URL: http://www.national.com/pf/DS/DS90C383B.html; ComponentLink4Description: MTD56 Package Page; ComponentLink4URL: http://www.national.com/packaging/folders/mtd56.html
footprint MTD56_N (TSSOP, 56-Leads, Body 14x6.1mm, Pitch 0.5mm, IPC Medium Density)
footprint MTD56_L (TSSOP, 56-Leads, Body 14x6.1mm, Pitch 0.5mm, IPC High Density)
footprint MTD56_M (TSSOP, 56-Leads, Body 14x6.1mm, Pitch 0.5mm, IPC Low Density)
pins: 1 VCC (power), 2 TxIN5 (in), 3 TxIN6 (in), 4 TxIN7 (in), 5 GND (power), 6 TxIN8 (in), 7 TxIN9 (in), 8 TxIN10 (in), 9 VCC (power), 10 TxIN11 (in), 11 TxIN12 (in), 12 TxIN13 (in), 13 GND (power), 14 TxIN14 (in), 15 TxIN15 (in), 16 TxIN16 (in), 17 R_FB (in), 18 TxIN17 (in), 19 TxIN18 (in), 20 TxIN19 (in), 21 GND (power), 22 TxIN20 (in), 23 TxIN21 (in), 24 TxIN22 (in), 25 TxIN23 (in), 26 VCC (power), 27 TxIN24 (in), 28 TxIN25 (in), 29 GND (power), 30 TxIN26 (in), 31 TxCLK IN (in), 32 ~{PWR DOWN} (in), 33 PLL GND (power), 34 PLL VCC (power), 35 PLL GND (power), 36 LVDS GND (power), 37 TxOUT3+ (out), 38 TxOUT3- (out), 39 TxCLKOUT+ (out), 40 TxCLKOUT- (out), 41 TxOUT2+ (out), 42 TxOUT2- (out), 43 LVDS GND (power), 44 LVDS VCC (power), 45 TxOUT1+ (out), 46 TxOUT1- (out), 47 TxOUT0+ (out), 48 TxOUT0- (out), 49 LVDS GND (power), 50 TxIN27 (in), 51 TxIN0 (in), 52 TxIN1 (in), 53 GND (power), 54 TxIN2 (in), 55 TxIN3 (in), 56 TxIN4 (in)

## DS90C383BMTX
designator U?
+3.3V Programmable LVDS Transmitter 24-Bit Flat Panel Display (FPD) Link - 65 MHz, 56-pin TSSOP; PartNumber: DS90C383BMTX; Manufacturer: National Semiconductor; PackageTopMarking: NSUZXYTTE#*DS90C383BMT; PowerWise: N; CompType: Interface IC; High-Reliability: Y; DatasheetVersion: Oct-2006; PackageVersion: revD, Apr-2003; PackageReference: MTD56; PackageDescription: Molded TSSOP, Jedec, 14 x 6.1 x 0.9mm Body, 56 Lead, 0.50mm Pitch; RoHS: N; PinCount: 56; Code_IPC: TSSOP50P810-56; ComponentLink1Description: Manufacturer URL; ComponentLink1URL: http://www.national.com/; ComponentLink2Description: DS90C383B Datasheet; ComponentLink2URL: http://www.national.com/ds/DS/DS90C383B.pdf; ComponentLink3Description: DS90C383B Web Page; ComponentLink3URL: http://www.national.com/pf/DS/DS90C383B.html; ComponentLink4Description: MTD56 Package Page; ComponentLink4URL: http://www.national.com/packaging/folders/mtd56.html
footprint MTD56_N (TSSOP, 56-Leads, Body 14x6.1mm, Pitch 0.5mm, IPC Medium Density)
footprint MTD56_L (TSSOP, 56-Leads, Body 14x6.1mm, Pitch 0.5mm, IPC High Density)
footprint MTD56_M (TSSOP, 56-Leads, Body 14x6.1mm, Pitch 0.5mm, IPC Low Density)
pins: 1 VCC (power), 2 TxIN5 (in), 3 TxIN6 (in), 4 TxIN7 (in), 5 GND (power), 6 TxIN8 (in), 7 TxIN9 (in), 8 TxIN10 (in), 9 VCC (power), 10 TxIN11 (in), 11 TxIN12 (in), 12 TxIN13 (in), 13 GND (power), 14 TxIN14 (in), 15 TxIN15 (in), 16 TxIN16 (in), 17 R_FB (in), 18 TxIN17 (in), 19 TxIN18 (in), 20 TxIN19 (in), 21 GND (power), 22 TxIN20 (in), 23 TxIN21 (in), 24 TxIN22 (in), 25 TxIN23 (in), 26 VCC (power), 27 TxIN24 (in), 28 TxIN25 (in), 29 GND (power), 30 TxIN26 (in), 31 TxCLK IN (in), 32 ~{PWR DOWN} (in), 33 PLL GND (power), 34 PLL VCC (power), 35 PLL GND (power), 36 LVDS GND (power), 37 TxOUT3+ (out), 38 TxOUT3- (out), 39 TxCLKOUT+ (out), 40 TxCLKOUT- (out), 41 TxOUT2+ (out), 42 TxOUT2- (out), 43 LVDS GND (power), 44 LVDS VCC (power), 45 TxOUT1+ (out), 46 TxOUT1- (out), 47 TxOUT0+ (out), 48 TxOUT0- (out), 49 LVDS GND (power), 50 TxIN27 (in), 51 TxIN0 (in), 52 TxIN1 (in), 53 GND (power), 54 TxIN2 (in), 55 TxIN3 (in), 56 TxIN4 (in)

## DS90C383BMTX/NOPB
designator U?
+3.3V Programmable LVDS Transmitter 24-Bit Flat Panel Display (FPD) Link - 65 MHz, 56-pin TSSOP, Pb-Free; PartNumber: DS90C383BMTX/NOPB; Manufacturer: National Semiconductor; PackageTopMarking: NSUZXYTTE#*DS90C383BMT; PowerWise: N; CompType: Interface IC; High-Reliability: Y; DatasheetVersion: Oct-2006; PackageVersion: revD, Apr-2003; PackageReference: MTD56; PackageDescription: Molded TSSOP, Jedec, 14 x 6.1 x 0.9mm Body, 56 Lead, 0.50mm Pitch; RoHS: Y; PinCount: 56; Code_IPC: TSSOP50P810-56; ComponentLink1Description: Manufacturer URL; ComponentLink1URL: http://www.national.com/; ComponentLink2Description: DS90C383B Datasheet; ComponentLink2URL: http://www.national.com/ds/DS/DS90C383B.pdf; ComponentLink3Description: DS90C383B Web Page; ComponentLink3URL: http://www.national.com/pf/DS/DS90C383B.html; ComponentLink4Description: MTD56 Package Page; ComponentLink4URL: http://www.national.com/packaging/folders/mtd56.html
footprint MTD56_N (TSSOP, 56-Leads, Body 14x6.1mm, Pitch 0.5mm, IPC Medium Density)
footprint MTD56_L (TSSOP, 56-Leads, Body 14x6.1mm, Pitch 0.5mm, IPC High Density)
footprint MTD56_M (TSSOP, 56-Leads, Body 14x6.1mm, Pitch 0.5mm, IPC Low Density)
pins: 1 VCC (power), 2 TxIN5 (in), 3 TxIN6 (in), 4 TxIN7 (in), 5 GND (power), 6 TxIN8 (in), 7 TxIN9 (in), 8 TxIN10 (in), 9 VCC (power), 10 TxIN11 (in), 11 TxIN12 (in), 12 TxIN13 (in), 13 GND (power), 14 TxIN14 (in), 15 TxIN15 (in), 16 TxIN16 (in), 17 R_FB (in), 18 TxIN17 (in), 19 TxIN18 (in), 20 TxIN19 (in), 21 GND (power), 22 TxIN20 (in), 23 TxIN21 (in), 24 TxIN22 (in), 25 TxIN23 (in), 26 VCC (power), 27 TxIN24 (in), 28 TxIN25 (in), 29 GND (power), 30 TxIN26 (in), 31 TxCLK IN (in), 32 ~{PWR DOWN} (in), 33 PLL GND (power), 34 PLL VCC (power), 35 PLL GND (power), 36 LVDS GND (power), 37 TxOUT3+ (out), 38 TxOUT3- (out), 39 TxCLKOUT+ (out), 40 TxCLKOUT- (out), 41 TxOUT2+ (out), 42 TxOUT2- (out), 43 LVDS GND (power), 44 LVDS VCC (power), 45 TxOUT1+ (out), 46 TxOUT1- (out), 47 TxOUT0+ (out), 48 TxOUT0- (out), 49 LVDS GND (power), 50 TxIN27 (in), 51 TxIN0 (in), 52 TxIN1 (in), 53 GND (power), 54 TxIN2 (in), 55 TxIN3 (in), 56 TxIN4 (in)

## DS90C383MTD
designator U?
+3.3V Programmable LVDS Transmitter 24-Bit Flat Panel Display (FPD) Link-65 MHz, 56 pin TSSOP; PartNumber: DS90C383MTD; Manufacturer: National Semiconductor; PackageTopMarking: NS2ZXYTTE#*DS90C383MTD*BBBBB; PowerWise: N; CompType: Interface IC; High-Reliability: Y; DatasheetVersion: Nov-2000; PackageVersion: revD, Apr-2003; PackageReference: MTD56; PackageDescription: Molded TSSOP, Jedec, 14 x 6.1 x 0.9mm Body, 56 Lead, 0.50mm Pitch; RoHS: N; PinCount: 56; Code_IPC: TSSOP50P810-56; ComponentLink1Description: Manufacturer URL; ComponentLink1URL: http://www.national.com/; ComponentLink2Description: DS90C383 Datasheet; ComponentLink2URL: http://www.national.com/ds/DS/DS90C383.pdf; ComponentLink3Description: DS90C383 Web Page; ComponentLink3URL: http://www.national.com/pf/DS/DS90C383.html; ComponentLink4Description: MTD56 Package Page; ComponentLink4URL: http://www.national.com/packaging/folders/mtd56.html
footprint MTD56_N (TSSOP, 56-Leads, Body 14x6.1mm, Pitch 0.5mm, IPC Medium Density)
footprint MTD56_L (TSSOP, 56-Leads, Body 14x6.1mm, Pitch 0.5mm, IPC High Density)
footprint MTD56_M (TSSOP, 56-Leads, Body 14x6.1mm, Pitch 0.5mm, IPC Low Density)
pins: 1 VCC (power), 2 TxIN5 (in), 3 TxIN6 (in), 4 TxIN7 (in), 5 GND (power), 6 TxIN8 (in), 7 TxIN9 (in), 8 TxIN10 (in), 9 VCC (power), 10 TxIN11 (in), 11 TxIN12 (in), 12 TxIN13 (in), 13 GND (power), 14 TxIN14 (in), 15 TxIN15 (in), 16 TxIN16 (in), 17 R_FB (in), 18 TxIN17 (in), 19 TxIN18 (in), 20 TxIN19 (in), 21 GND (power), 22 TxIN20 (in), 23 TxIN21 (in), 24 TxIN22 (in), 25 TxIN23 (in), 26 VCC (power), 27 TxIN24 (in), 28 TxIN25 (in), 29 GND (power), 30 TxIN26 (in), 31 TxCLK IN (in), 32 ~{PWR DOWN} (in), 33 PLL GND (power), 34 PLL VCC (power), 35 PLL GND (power), 36 LVDS GND (power), 37 TxOUT3+ (out), 38 TxOUT3- (out), 39 TxCLKOUT+ (out), 40 TxCLKOUT- (out), 41 TxOUT2+ (out), 42 TxOUT2- (out), 43 LVDS GND (power), 44 LVDS VCC (power), 45 TxOUT1+ (out), 46 TxOUT1- (out), 47 TxOUT0+ (out), 48 TxOUT0- (out), 49 LVDS GND (power), 50 TxIN27 (in), 51 TxIN0 (in), 52 TxIN1 (in), 53 GND (power), 54 TxIN2 (in), 55 TxIN3 (in), 56 TxIN4 (in)

## DS90C383MTD/NOPB
designator U?
+3.3V Programmable LVDS Transmitter 24-Bit Flat Panel Display (FPD) Link-65 MHz, 56 pin TSSOP; PartNumber: DS90C383MTD/NOPB; Manufacturer: National Semiconductor; PackageTopMarking: NS2ZXYTTE#*DS90C383MTD*BBBBB; PowerWise: N; CompType: Interface IC; High-Reliability: Y; DatasheetVersion: Nov-2000; PackageVersion: revD, Apr-2003; PackageReference: MTD56; PackageDescription: Molded TSSOP, Jedec, 14 x 6.1 x 0.9mm Body, 56 Lead, 0.50mm Pitch; RoHS: Y; PinCount: 56; Code_IPC: TSSOP50P810-56; ComponentLink1Description: Manufacturer URL; ComponentLink1URL: http://www.national.com/; ComponentLink2Description: DS90C383 Datasheet; ComponentLink2URL: http://www.national.com/ds/DS/DS90C383.pdf; ComponentLink3Description: DS90C383 Web Page; ComponentLink3URL: http://www.national.com/pf/DS/DS90C383.html; ComponentLink4Description: MTD56 Package Page; ComponentLink4URL: http://www.national.com/packaging/folders/mtd56.html
footprint MTD56_N (TSSOP, 56-Leads, Body 14x6.1mm, Pitch 0.5mm, IPC Medium Density)
footprint MTD56_L (TSSOP, 56-Leads, Body 14x6.1mm, Pitch 0.5mm, IPC High Density)
footprint MTD56_M (TSSOP, 56-Leads, Body 14x6.1mm, Pitch 0.5mm, IPC Low Density)
pins: 1 VCC (power), 2 TxIN5 (in), 3 TxIN6 (in), 4 TxIN7 (in), 5 GND (power), 6 TxIN8 (in), 7 TxIN9 (in), 8 TxIN10 (in), 9 VCC (power), 10 TxIN11 (in), 11 TxIN12 (in), 12 TxIN13 (in), 13 GND (power), 14 TxIN14 (in), 15 TxIN15 (in), 16 TxIN16 (in), 17 R_FB (in), 18 TxIN17 (in), 19 TxIN18 (in), 20 TxIN19 (in), 21 GND (power), 22 TxIN20 (in), 23 TxIN21 (in), 24 TxIN22 (in), 25 TxIN23 (in), 26 VCC (power), 27 TxIN24 (in), 28 TxIN25 (in), 29 GND (power), 30 TxIN26 (in), 31 TxCLK IN (in), 32 ~{PWR DOWN} (in), 33 PLL GND (power), 34 PLL VCC (power), 35 PLL GND (power), 36 LVDS GND (power), 37 TxOUT3+ (out), 38 TxOUT3- (out), 39 TxCLKOUT+ (out), 40 TxCLKOUT- (out), 41 TxOUT2+ (out), 42 TxOUT2- (out), 43 LVDS GND (power), 44 LVDS VCC (power), 45 TxOUT1+ (out), 46 TxOUT1- (out), 47 TxOUT0+ (out), 48 TxOUT0- (out), 49 LVDS GND (power), 50 TxIN27 (in), 51 TxIN0 (in), 52 TxIN1 (in), 53 GND (power), 54 TxIN2 (in), 55 TxIN3 (in), 56 TxIN4 (in)

## DS90C383MTDX
designator U?
+3.3V Programmable LVDS Transmitter 24-Bit Flat Panel Display (FPD) Link-65 MHz, 56 pin TSSOP; PartNumber: DS90C383MTDX; Manufacturer: National Semiconductor; PackageTopMarking: NS2ZXYTTE#*DS90C383MTD*BBBBB; PowerWise: N; CompType: Interface IC; High-Reliability: Y; DatasheetVersion: Nov-2000; PackageVersion: revD, Apr-2003; PackageReference: MTD56; PackageDescription: Molded TSSOP, Jedec, 14 x 6.1 x 0.9mm Body, 56 Lead, 0.50mm Pitch; RoHS: N; PinCount: 56; Code_IPC: TSSOP50P810-56; ComponentLink1Description: Manufacturer URL; ComponentLink1URL: http://www.national.com/; ComponentLink2Description: DS90C383 Datasheet; ComponentLink2URL: http://www.national.com/ds/DS/DS90C383.pdf; ComponentLink3Description: DS90C383 Web Page; ComponentLink3URL: http://www.national.com/pf/DS/DS90C383.html; ComponentLink4Description: MTD56 Package Page; ComponentLink4URL: http://www.national.com/packaging/folders/mtd56.html
footprint MTD56_N (TSSOP, 56-Leads, Body 14x6.1mm, Pitch 0.5mm, IPC Medium Density)
footprint MTD56_L (TSSOP, 56-Leads, Body 14x6.1mm, Pitch 0.5mm, IPC High Density)
footprint MTD56_M (TSSOP, 56-Leads, Body 14x6.1mm, Pitch 0.5mm, IPC Low Density)
pins: 1 VCC (power), 2 TxIN5 (in), 3 TxIN6 (in), 4 TxIN7 (in), 5 GND (power), 6 TxIN8 (in), 7 TxIN9 (in), 8 TxIN10 (in), 9 VCC (power), 10 TxIN11 (in), 11 TxIN12 (in), 12 TxIN13 (in), 13 GND (power), 14 TxIN14 (in), 15 TxIN15 (in), 16 TxIN16 (in), 17 R_FB (in), 18 TxIN17 (in), 19 TxIN18 (in), 20 TxIN19 (in), 21 GND (power), 22 TxIN20 (in), 23 TxIN21 (in), 24 TxIN22 (in), 25 TxIN23 (in), 26 VCC (power), 27 TxIN24 (in), 28 TxIN25 (in), 29 GND (power), 30 TxIN26 (in), 31 TxCLK IN (in), 32 ~{PWR DOWN} (in), 33 PLL GND (power), 34 PLL VCC (power), 35 PLL GND (power), 36 LVDS GND (power), 37 TxOUT3+ (out), 38 TxOUT3- (out), 39 TxCLKOUT+ (out), 40 TxCLKOUT- (out), 41 TxOUT2+ (out), 42 TxOUT2- (out), 43 LVDS GND (power), 44 LVDS VCC (power), 45 TxOUT1+ (out), 46 TxOUT1- (out), 47 TxOUT0+ (out), 48 TxOUT0- (out), 49 LVDS GND (power), 50 TxIN27 (in), 51 TxIN0 (in), 52 TxIN1 (in), 53 GND (power), 54 TxIN2 (in), 55 TxIN3 (in), 56 TxIN4 (in)

## DS90C385AMT
designator U?
LVDS Transmitter Flat Panel Display 85MHz, 56-pin TSSOP; PartNumber: DS90C385AMT; Manufacturer: National Semiconductor; PackageTopMarking: NSUZXYTTE#*DS90C385AMT; PowerWise: N; CompType: Interface IC; High-Reliability: Y; DatasheetVersion: Apr-2006; PackageVersion: revD, Apr-2003; PackageReference: MTD56; PackageDescription: Molded TSSOP, Jedec, 14 x 6.1 x 0.9mm Body, 56 Lead, 0.50mm Pitch; RoHS: N; PinCount: 56; Code_IPC: TSSOP50P810-56; ComponentLink1Description: Manufacturer URL; ComponentLink1URL: http://www.national.com/; ComponentLink2Description: DS90C385A Datasheet; ComponentLink2URL: http://www.national.com/ds/DS/DS90C385A.pdf; ComponentLink3Description: DS90C385A Web Page; ComponentLink3URL: http://www.national.com/pf/DS/DS90C385A.html; ComponentLink4Description: MTD56 Package Page; ComponentLink4URL: http://www.national.com/packaging/folders/mtd56.html
footprint MTD56_N (TSSOP, 56-Leads, Body 14x6.1mm, Pitch 0.5mm, IPC Medium Density)
footprint MTD56_L (TSSOP, 56-Leads, Body 14x6.1mm, Pitch 0.5mm, IPC High Density)
footprint MTD56_M (TSSOP, 56-Leads, Body 14x6.1mm, Pitch 0.5mm, IPC Low Density)
pins: 1 VCC (power), 2 TxIN5 (in), 3 TxIN6 (in), 4 TxIN7 (in), 5 GND (power), 6 TxIN8 (in), 7 TxIN9 (in), 8 TxIN10 (in), 9 VCC (power), 10 TxIN11 (in), 11 TxIN12 (in), 12 TxIN13 (in), 13 GND (power), 14 TxIN14 (in), 15 TxIN15 (in), 16 TxIN16 (in), 17 R_FB (in), 18 TxIN17 (in), 19 TxIN18 (in), 20 TxIN19 (in), 21 GND (power), 22 TxIN20 (in), 23 TxIN21 (in), 24 TxIN22 (in), 25 TxIN23 (in), 26 VCC (power), 27 TxIN24 (in), 28 TxIN25 (in), 29 GND (power), 30 TxIN26 (in), 31 TxCLK IN (in), 32 ~{PWR DOWN} (in), 33 PLL GND (power), 34 PLL VCC (power), 35 PLL GND (power), 36 LVDS GND (power), 37 TxOUT3+ (out), 38 TxOUT3- (out), 39 TxCLKOUT+ (out), 40 TxCLKOUT- (out), 41 TxOUT2+ (out), 42 TxOUT2- (out), 43 LVDS GND (power), 44 LVDS VCC (power), 45 TxOUT1+ (out), 46 TxOUT1- (out), 47 TxOUT0+ (out), 48 TxOUT0- (out), 49 LVDS GND (power), 50 TxIN27 (in), 51 TxIN0 (in), 52 TxIN1 (in), 53 GND (power), 54 TxIN2 (in), 55 TxIN3 (in), 56 TxIN4 (in)

## DS90C385AMT/NOPB
designator U?
LVDS Transmitter Flat Panel Display 85MHz, 56-pin TSSOP, Pb-Free; PartNumber: DS90C385AMT/NOPB; Manufacturer: National Semiconductor; PackageTopMarking: NSUZXYTTE#*DS90C385AMT; PowerWise: N; CompType: Interface IC; High-Reliability: Y; DatasheetVersion: Apr-2006; PackageVersion: revD, Apr-2003; PackageReference: MTD56; PackageDescription: Molded TSSOP, Jedec, 14 x 6.1 x 0.9mm Body, 56 Lead, 0.50mm Pitch; RoHS: Y; PinCount: 56; Code_IPC: TSSOP50P810-56; ComponentLink1Description: Manufacturer URL; ComponentLink1URL: http://www.national.com/; ComponentLink2Description: DS90C385A Datasheet; ComponentLink2URL: http://www.national.com/ds/DS/DS90C385A.pdf; ComponentLink3Description: DS90C385A Web Page; ComponentLink3URL: http://www.national.com/pf/DS/DS90C385A.html; ComponentLink4Description: MTD56 Package Page; ComponentLink4URL: http://www.national.com/packaging/folders/mtd56.html
footprint MTD56_N (TSSOP, 56-Leads, Body 14x6.1mm, Pitch 0.5mm, IPC Medium Density)
footprint MTD56_L (TSSOP, 56-Leads, Body 14x6.1mm, Pitch 0.5mm, IPC High Density)
footprint MTD56_M (TSSOP, 56-Leads, Body 14x6.1mm, Pitch 0.5mm, IPC Low Density)
pins: 1 VCC (power), 2 TxIN5 (in), 3 TxIN6 (in), 4 TxIN7 (in), 5 GND (power), 6 TxIN8 (in), 7 TxIN9 (in), 8 TxIN10 (in), 9 VCC (power), 10 TxIN11 (in), 11 TxIN12 (in), 12 TxIN13 (in), 13 GND (power), 14 TxIN14 (in), 15 TxIN15 (in), 16 TxIN16 (in), 17 R_FB (in), 18 TxIN17 (in), 19 TxIN18 (in), 20 TxIN19 (in), 21 GND (power), 22 TxIN20 (in), 23 TxIN21 (in), 24 TxIN22 (in), 25 TxIN23 (in), 26 VCC (power), 27 TxIN24 (in), 28 TxIN25 (in), 29 GND (power), 30 TxIN26 (in), 31 TxCLK IN (in), 32 ~{PWR DOWN} (in), 33 PLL GND (power), 34 PLL VCC (power), 35 PLL GND (power), 36 LVDS GND (power), 37 TxOUT3+ (out), 38 TxOUT3- (out), 39 TxCLKOUT+ (out), 40 TxCLKOUT- (out), 41 TxOUT2+ (out), 42 TxOUT2- (out), 43 LVDS GND (power), 44 LVDS VCC (power), 45 TxOUT1+ (out), 46 TxOUT1- (out), 47 TxOUT0+ (out), 48 TxOUT0- (out), 49 LVDS GND (power), 50 TxIN27 (in), 51 TxIN0 (in), 52 TxIN1 (in), 53 GND (power), 54 TxIN2 (in), 55 TxIN3 (in), 56 TxIN4 (in)

## DS90C385AMTX
designator U?
LVDS Transmitter Flat Panel Display 85MHz, 56-pin TSSOP; PartNumber: DS90C385AMTX; Manufacturer: National Semiconductor; PackageTopMarking: NSUZXYTTE#*DS90C385AMT; PowerWise: N; CompType: Interface IC; High-Reliability: Y; DatasheetVersion: Apr-2006; PackageVersion: revD, Apr-2003; PackageReference: MTD56; PackageDescription: Molded TSSOP, Jedec, 14 x 6.1 x 0.9mm Body, 56 Lead, 0.50mm Pitch; RoHS: N; PinCount: 56; Code_IPC: TSSOP50P810-56; ComponentLink1Description: Manufacturer URL; ComponentLink1URL: http://www.national.com/; ComponentLink2Description: DS90C385A Datasheet; ComponentLink2URL: http://www.national.com/ds/DS/DS90C385A.pdf; ComponentLink3Description: DS90C385A Web Page; ComponentLink3URL: http://www.national.com/pf/DS/DS90C385A.html; ComponentLink4Description: MTD56 Package Page; ComponentLink4URL: http://www.national.com/packaging/folders/mtd56.html
footprint MTD56_N (TSSOP, 56-Leads, Body 14x6.1mm, Pitch 0.5mm, IPC Medium Density)
footprint MTD56_L (TSSOP, 56-Leads, Body 14x6.1mm, Pitch 0.5mm, IPC High Density)
footprint MTD56_M (TSSOP, 56-Leads, Body 14x6.1mm, Pitch 0.5mm, IPC Low Density)
pins: 1 VCC (power), 2 TxIN5 (in), 3 TxIN6 (in), 4 TxIN7 (in), 5 GND (power), 6 TxIN8 (in), 7 TxIN9 (in), 8 TxIN10 (in), 9 VCC (power), 10 TxIN11 (in), 11 TxIN12 (in), 12 TxIN13 (in), 13 GND (power), 14 TxIN14 (in), 15 TxIN15 (in), 16 TxIN16 (in), 17 R_FB (in), 18 TxIN17 (in), 19 TxIN18 (in), 20 TxIN19 (in), 21 GND (power), 22 TxIN20 (in), 23 TxIN21 (in), 24 TxIN22 (in), 25 TxIN23 (in), 26 VCC (power), 27 TxIN24 (in), 28 TxIN25 (in), 29 GND (power), 30 TxIN26 (in), 31 TxCLK IN (in), 32 ~{PWR DOWN} (in), 33 PLL GND (power), 34 PLL VCC (power), 35 PLL GND (power), 36 LVDS GND (power), 37 TxOUT3+ (out), 38 TxOUT3- (out), 39 TxCLKOUT+ (out), 40 TxCLKOUT- (out), 41 TxOUT2+ (out), 42 TxOUT2- (out), 43 LVDS GND (power), 44 LVDS VCC (power), 45 TxOUT1+ (out), 46 TxOUT1- (out), 47 TxOUT0+ (out), 48 TxOUT0- (out), 49 LVDS GND (power), 50 TxIN27 (in), 51 TxIN0 (in), 52 TxIN1 (in), 53 GND (power), 54 TxIN2 (in), 55 TxIN3 (in), 56 TxIN4 (in)

## DS90C385AMTX/NOPB
designator U?
LVDS Transmitter Flat Panel Display 85MHz, 56-pin TSSOP, Pb-Free; PartNumber: DS90C385AMTX/NOPB; Manufacturer: National Semiconductor; PackageTopMarking: NSUZXYTTE#*DS90C385AMT; PowerWise: N; CompType: Interface IC; High-Reliability: Y; DatasheetVersion: Apr-2006; PackageVersion: revD, Apr-2003; PackageReference: MTD56; PackageDescription: Molded TSSOP, Jedec, 14 x 6.1 x 0.9mm Body, 56 Lead, 0.50mm Pitch; RoHS: Y; PinCount: 56; Code_IPC: TSSOP50P810-56; ComponentLink1Description: Manufacturer URL; ComponentLink1URL: http://www.national.com/; ComponentLink2Description: DS90C385A Datasheet; ComponentLink2URL: http://www.national.com/ds/DS/DS90C385A.pdf; ComponentLink3Description: DS90C385A Web Page; ComponentLink3URL: http://www.national.com/pf/DS/DS90C385A.html; ComponentLink4Description: MTD56 Package Page; ComponentLink4URL: http://www.national.com/packaging/folders/mtd56.html
footprint MTD56_N (TSSOP, 56-Leads, Body 14x6.1mm, Pitch 0.5mm, IPC Medium Density)
footprint MTD56_L (TSSOP, 56-Leads, Body 14x6.1mm, Pitch 0.5mm, IPC High Density)
footprint MTD56_M (TSSOP, 56-Leads, Body 14x6.1mm, Pitch 0.5mm, IPC Low Density)
pins: 1 VCC (power), 2 TxIN5 (in), 3 TxIN6 (in), 4 TxIN7 (in), 5 GND (power), 6 TxIN8 (in), 7 TxIN9 (in), 8 TxIN10 (in), 9 VCC (power), 10 TxIN11 (in), 11 TxIN12 (in), 12 TxIN13 (in), 13 GND (power), 14 TxIN14 (in), 15 TxIN15 (in), 16 TxIN16 (in), 17 R_FB (in), 18 TxIN17 (in), 19 TxIN18 (in), 20 TxIN19 (in), 21 GND (power), 22 TxIN20 (in), 23 TxIN21 (in), 24 TxIN22 (in), 25 TxIN23 (in), 26 VCC (power), 27 TxIN24 (in), 28 TxIN25 (in), 29 GND (power), 30 TxIN26 (in), 31 TxCLK IN (in), 32 ~{PWR DOWN} (in), 33 PLL GND (power), 34 PLL VCC (power), 35 PLL GND (power), 36 LVDS GND (power), 37 TxOUT3+ (out), 38 TxOUT3- (out), 39 TxCLKOUT+ (out), 40 TxCLKOUT- (out), 41 TxOUT2+ (out), 42 TxOUT2- (out), 43 LVDS GND (power), 44 LVDS VCC (power), 45 TxOUT1+ (out), 46 TxOUT1- (out), 47 TxOUT0+ (out), 48 TxOUT0- (out), 49 LVDS GND (power), 50 TxIN27 (in), 51 TxIN0 (in), 52 TxIN1 (in), 53 GND (power), 54 TxIN2 (in), 55 TxIN3 (in), 56 TxIN4 (in)

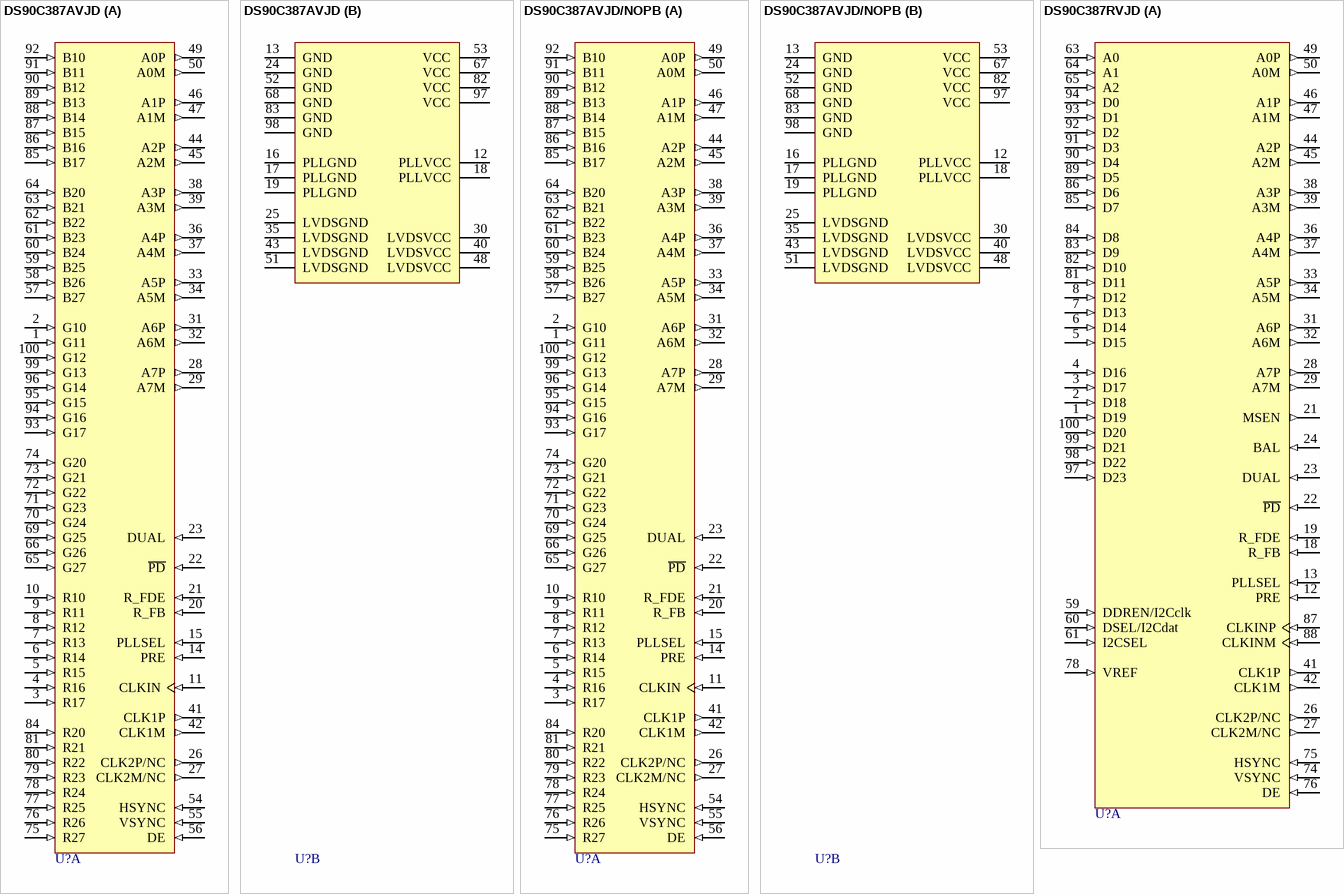
[diagram p33: symbols DS90C387AVJD to DS90C387RVJD]

## DS90C387AVJD
designator U?
Dual Pixel LVDS Display Interface / FPD-Link Transmitter, 100-pin TQFP; PartNumber: DS90C387AVJD; Manufacturer: National Semiconductor; PackageTopMarking: NS2ZXYYTTE#*DS90C387AVJD*BBBBB; PowerWise: N; CompType: Interface IC; High-Reliability: Y; DatasheetVersion: Feb-2006; PackageVersion: revC, May-2004; PackageReference: VJD100A; PackageDescription: TQFP, Jedec, Metric, 14 x 14 x 1.0mm, 100 Lead; RoHS: N; PinCount: 100; Code_JEDEC: MS-026-AED; ComponentLink1Description: Manufacturer URL; ComponentLink1URL: http://www.national.com/; ComponentLink2Description: DS90C387A Datasheet; ComponentLink2URL: http://www.national.com/ds/DS/DS90C387A.pdf; ComponentLink3Description: DS90C387A Web Page; ComponentLink3URL: http://www.national.com/pf/DS/DS90C387A.html; ComponentLink4Description: VJD100A Package Page; ComponentLink4URL: http://www.national.com/packaging/folders/vjd100a.html
footprint VJD100A_N (Thin QFP, 100-Leads, Body 14x14mm, Pitch 0.5mm, IPC Medium Density)
footprint VJD100A_L (Thin QFP, 100-Leads, Body 14x14mm, Pitch 0.5mm, IPC High Density)
footprint VJD100A_M (Thin QFP, 100-Leads, Body 14x14mm, Pitch 0.5mm, IPC Low Density)
part A pins: 1 G11 (in), 2 G10 (in), 3 R17 (in), 4 R16 (in), 5 R15 (in), 6 R14 (in), 7 R13 (in), 8 R12 (in), 9 R11 (in), 10 R10 (in), 11 CLKIN (in), 14 PRE (in), 15 PLLSEL (in), 20 R_FB (in), 21 R_FDE (in), 22 ~{PD} (in), 23 DUAL (in), 26 CLK2P/NC (out), 27 CLK2M/NC (out), 28 A7P (out), 29 A7M (out), 31 A6P (out), 32 A6M (out), 33 A5P (out), 34 A5M (out), 36 A4P (out), 37 A4M (out), 38 A3P (out), 39 A3M (out), 41 CLK1P (out), 42 CLK1M (out), 44 A2P (out), 45 A2M (out), 46 A1P (out), 47 A1M (out), 49 A0P (out), 50 A0M (out), 54 HSYNC (in), 55 VSYNC (in), 56 DE (in), 57 B27 (in), 58 B26 (in), 59 B25 (in), 60 B24 (in), 61 B23 (in), 62 B22 (in), 63 B21 (in), 64 B20 (in), 65 G27 (in), 66 G26 (in), 69 G25 (in), 70 G24 (in), 71 G23 (in), 72 G22 (in), 73 G21 (in), 74 G20 (in), 75 R27 (in), 76 R26 (in), 77 R25 (in), 78 R24 (in), 79 R23 (in), 80 R22 (in), 81 R21 (in), 84 R20 (in), 85 B17 (in), 86 B16 (in), 87 B15 (in), 88 B14 (in), 89 B13 (in), 90 B12 (in), 91 B11 (in), 92 B10 (in), 93 G17 (in), 94 G16 (in), 95 G15 (in), 96 G14 (in), 99 G13 (in), 100 G12 (in)
part B pins: 12 PLLVCC (power), 13 GND (power), 16 PLLGND (power), 17 PLLGND (power), 18 PLLVCC (power), 19 PLLGND (power), 24 GND (power), 25 LVDSGND (power), 30 LVDSVCC (power), 35 LVDSGND (power), 40 LVDSVCC (power), 43 LVDSGND (power), 48 LVDSVCC (power), 51 LVDSGND (power), 52 GND (power), 53 VCC (power), 67 VCC (power), 68 GND (power), 82 VCC (power), 83 GND (power), 97 VCC (power), 98 GND (power)